# Altium schematic symbol library Schematic_Transistor.SchLib: 9 symbols
Pins are listed as number, name and electrical type; pins without a type are passive.

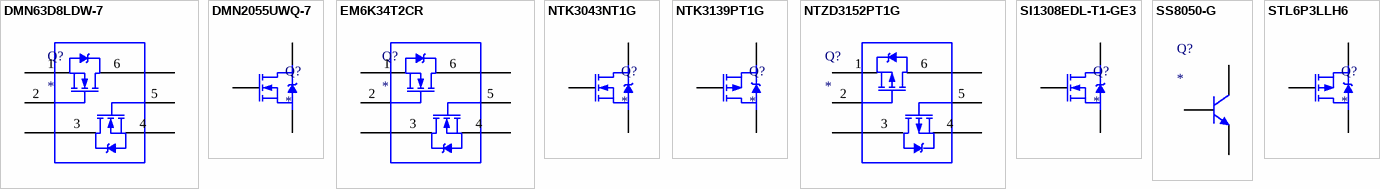
[diagram p0: symbols DMN63D8LDW-7 to STL6P3LLH6]

## DMN63D8LDW-7
designator Q?
DIODES INC. - DMN63D8LDW-7 - Dual MOSFET, N Channel, 30 V, 260 mA, 2.8 ohm, SOT-363, Surface Mount; Rise Time: 3.2ns; Rds On Max: 2.8R; Input Capacitance: 22pF; Drain to Source Voltage (Vdss): 30V; Continuous Drain Current (ID): 260mA; Max Power Dissipation: 300mW; Turn-On Delay Time: 3.3ns; Turn-Off Delay Time: 12ns; Fall Time: 6.3ns; Number of Elements: 2; Power Dissipation: 400mW; Threshold Voltage: 1.5V; Gate to Source Voltage (Vgs): 20V; FET Type: 2 N-Channel; Supplier 1: Digi-Key; Manufacturer: Diodes; Manufacturer Part Number: DMN63D8LDW-7; RoHS: Yes; Category: MOSFETs; Stock 1: 67979; Pricing 1: 1=0.30000, 10=0.24300, 25=0.20360, 100=0.09950, 250=0.09796, 500=0.08302, 1000=0.05768 (USD); Mount: Surface Mount; Case/Package: SOT-363; Number of Pins: 6; Weight: 0.000212oz; Contact Plating: Tin,Matte; Min Operating Temperature: -55°C; Max Operating Temperature: 150°C; Package Quantity: 3000; Packaging: Tape and Reel; Drain to Source Resistance: 2.8R; Element Configuration: Dual; Number of Channels: 2; Drain to Source Breakdown Voltage: 30V; Length: 2.2mm; Height: 1mm; Width: 1.35mm; Radiation Hardening: No; REACH SVHC: No SVHC; Lead Free: Lead Free; ComponentLink1URL: https://datasheet.ciiva.com/30023/dmn63d8ldw-30023824.pdf?src-supplier=Avnet; ComponentLink1Description: https://datasheet.ciiva.com/30023/dmn63d8ldw-30023824.pdf?src-supplier=Avnet; ComponentLink2URL: https://datasheet.ciiva.com/6384/dmn63d8ldw-6384534.pdf?src-supplier=Digi-Key; ComponentLink2Description: https://datasheet.ciiva.com/6384/dmn63d8ldw-6384534.pdf?src-supplier=Digi-Key
footprint SOT65P210X110-6N (SOT23, 6-Leads, Body 2.00x2.10mm, Pitch 0.65mm, IPC Medium Density)
pins: 1 S1, 2 G1, 3 D2, 4 S2, 5 G2, 6 D1

## DMN2055UWQ-7
designator Q?
Transistor MOSFET N-Channel 20V 3.1A Automotive 3-Pin SOT-323 T/R; Manufacturer: Diodes; Manufacturer Part Number: DMN2055UWQ-7; Supplier 1: Digikey; RoHS: Yes; Stock 1: 3935; Pricing 1: 1=0.37, 10=0.226, 100=0.1265, 500=0.1056, 1000=0.09376 (USD); RoHS Compliant: Yes
footprint SOT65P210X100-3N (SOT23, 3-Leads, Body 2.00x2.10mm, Pitch 0.65mm, IPC Medium Density)
pins: 1 G, 2 S, 3 D

## EM6K34T2CR
designator Q?
MOSFET 2N-CH 50V 0.2A EMT6; Manufacturer: Rohm; Manufacturer Part Number: EM6K34T2CR; FET Type: 2 N-Channel; Continuous Drain Current (ID): 200mA; Rds On Max: 2.2R; Input Capacitance: 26pF; Max Power Dissipation: 120mW; Supplier 1: Digi-Key; RoHS: Yes; Category: MOSFETs; Stock 1: 17851; Pricing 1: 1=0.35000, 10=0.26400, 25=0.23120, 100=0.12540, 250=0.12476, 500=0.10230, 1000=0.07590, 2500=0.06666 (USD); Mount: Surface Mount; Packaging: Tape and Reel; Drain to Source Voltage (Vdss): 50V; Lead Free: Lead Free; ComponentLink1URL: http://www.mouser.com/ds/2/348/em6k34-515126.pdf?src-supplier=Mouser; ComponentLink1Description: http://www.mouser.com/ds/2/348/em6k34-515126.pdf?src-supplier=Mouser; ComponentLink2URL: http://www.farnell.com/datasheets/2197909.pdf?src-supplier=Farnell; ComponentLink2Description: http://www.farnell.com/datasheets/2197909.pdf?src-supplier=Farnell; ComponentLink3URL: http://rohmfs.rohm.com/en/products/databook/datasheet/discrete/transistor/mosfet/em6k34.pdf?src-supplier=Digi-Key; ComponentLink3Description: http://rohmfs.rohm.com/en/products/databook/datasheet/discrete/transistor/mosfet/em6k34.pdf?src-supplier=Digi-Key; ComponentLink4URL: http://rohmfs.rohm.com/en/products/databook/datasheet/discrete/transistor/mosfet/em6k34.pdf?src-supplier=Avnet; ComponentLink4Description: http://rohmfs.rohm.com/en/products/databook/datasheet/discrete/transistor/mosfet/em6k34.pdf?src-supplier=Avnet; ComponentLink5URL: http://rohmfs.rohm.com/en/techdata_basic/transistor/taping/EMT6_T2R_taping.pdf?src-supplier=Digi-Key; ComponentLink5Description: http://rohmfs.rohm.com/en/techdata_basic/transistor/taping/EMT6_T2R_taping.pdf?src-supplier=Digi-Key; ComponentLink6URL: http://www.farnell.com/datasheets/2197909.pdf?src-supplier=Newark; ComponentLink6Description: http://www.farnell.com/datasheets/2197909.pdf?src-supplier=Newark
footprint SOTFL50P160X50-6N (SOTFL, 6-Leads, Body 1.60x1.60mm, Pitch 0.50mm, IPC Medium Density)
pins: 1 S1, 2 G1, 3 D2, 4 S2, 5 G2, 6 D1

## NTK3043NT1G
designator Q?
MOSFET N-CH 20V 0.225A SOT-723; Manufacturer: ON Semiconductor; Manufacturer Part Number: NTK3043NT1G; Gate to Source Voltage (Vgs): 10V; Rise Time: 15ns; Continuous Drain Current (ID): 210mA; Turn-Off Delay Time: 94ns; Turn-On Delay Time: 13ns; Element Configuration: Single; On-State Resistance: 3.4R; Input Capacitance: 11pF; Number of Elements: 1; Max Power Dissipation: 310mW; Power Dissipation: 440mW; Threshold Voltage: 400mV; Current Rating: 225mA; Supplier 1: Digi-Key; RoHS: Yes; Category: MOSFETs; Stock 1: 64770; Pricing 1: 1=0.34000, 10=0.27800, 25=0.23320, 100=0.11400, 250=0.11216, 500=0.09506, 1000=0.06605 (USD); Case/Package: SOT-723-3; Number of Pins: 3; Contact Plating: Tin,Matte; Min Operating Temperature: -55°C; Max Operating Temperature: 150°C; Fall Time: 15ns; Packaging: Tape and Reel; Package Quantity: 1; Rds On Max: 3.4R; Drain to Source Voltage (Vdss): 20V; Drain to Source Breakdown Voltage: 20V; Drain to Source Resistance: 3.4R; Voltage Rating (DC): 20V; Length: 1.25mm; Height: 0.55mm; Width: 0.85mm; Radiation Hardening: No; REACH SVHC: No SVHC; Lead Free: Lead Free; ComponentLink1URL: https://datasheet.ciiva.com/30479/0900766b81206050-30479911.pdf?src-supplier=RSComponents; ComponentLink1Description: https://datasheet.ciiva.com/30479/0900766b81206050-30479911.pdf?src-supplier=RSComponents; ComponentLink2URL: https://datasheet.ciiva.com/26145/ntk3043n-d-26145937.pdf?src-supplier=Avnet+Europe; ComponentLink2Description: https://datasheet.ciiva.com/26145/ntk3043n-d-26145937.pdf?src-supplier=Avnet+Europe; ComponentLink3URL: https://datasheet.ciiva.com/11168/ntk3043n-d-11168406.pdf?src-supplier=Avnet; ComponentLink3Description: https://datasheet.ciiva.com/11168/ntk3043n-d-11168406.pdf?src-supplier=Avnet; ComponentLink4URL: https://datasheet.ciiva.com/947/ntk3043n-d-947052.pdf?src-supplier=Digi-Key; ComponentLink4Description: https://datasheet.ciiva.com/947/ntk3043n-d-947052.pdf?src-supplier=Digi-Key; ComponentLink5URL: https://datasheet.ciiva.com/16289/ntk3043n-d-16289766.pdf?src-supplier=Future+Electronics; ComponentLink5Description: https://datasheet.ciiva.com/16289/ntk3043n-d-16289766.pdf?src-supplier=Future+Electronics; ComponentLink6URL: https://datasheet.ciiva.com/16486/ntk3043n-d-16486375.pdf?src-supplier=Avnet+Asia; ComponentLink6Description: https://datasheet.ciiva.com/16486/ntk3043n-d-16486375.pdf?src-supplier=Avnet+Asia; ComponentLink7URL: https://datasheet.ciiva.com/8059/ntk3043n-d-8059515.pdf?src-supplier=Element14; ComponentLink7Description: https://datasheet.ciiva.com/8059/ntk3043n-d-8059515.pdf?src-supplier=Element14; ComponentLink8URL: https://datasheet.ciiva.com/947/ntk3043n-d-947053.pdf?src-supplier=Digi-Key; ComponentLink8Description: https://datasheet.ciiva.com/947/ntk3043n-d-947053.pdf?src-supplier=Digi-Key; ComponentLink9URL: https://datasheet.ciiva.com/947/ntk3043n-d-947054.pdf?src-supplier=Digi-Key; ComponentLink9Description: https://datasheet.ciiva.com/947/ntk3043n-d-947054.pdf?src-supplier=Digi-Key
footprint SOTFL40P120X55-3N (SOTFL, 3-Leads, Body 1.20x1.20mm, Pitch 0.40mm, IPC Medium Density)
pins: 1 G, 2 S, 3 D

## NTK3139PT1G
designator Q?
MOSFET P-CH 20V 0.66A SOT-723; Manufacturer: ON Semiconductor; Manufacturer Part Number: NTK3139PT1G; Element Configuration: Single; Drain to Source Breakdown Voltage: -20V; Gate to Source Voltage (Vgs): 6V; Rds On Max: 480mR; Input Capacitance: 170pF; Number of Elements: 1; Max Power Dissipation: 550mW; Rise Time: 5.8ns; Continuous Drain Current (ID): 780mA; Power Dissipation: 310mW; Drain to Source Resistance: 380mR; Turn-Off Delay Time: 32.7ns; Turn-On Delay Time: 9ns; Threshold Voltage: -1.2V; Supplier 1: Digi-Key; RoHS: Yes; Category: MOSFETs; Stock 1: 25213; Pricing 1: 1=0.35000, 10=0.25900, 25=0.22680, 100=0.12310, 250=0.12248, 500=0.10044, 1000=0.07452 (USD); Case/Package: SOT-723-3; Number of Pins: 3; Contact Plating: Tin,Matte; Min Operating Temperature: -55°C; Max Operating Temperature: 150°C; Packaging: Tape and Reel; Dual Supply Voltage: -20V; Drain to Source Voltage (Vdss): 20V; Package Quantity: 1; Fall Time: 5.8ns; Termination: SMD/SMT; On-State Resistance: 380mR; Length: 1.25mm; Height: 0.55mm; Width: 0.85mm; Radiation Hardening: No; Lead Free: Lead Free; REACH SVHC: No SVHC; ComponentLink1URL: https://datasheet.ciiva.com/936/ntk3139p-d-936832.pdf?src-supplier=Digi-Key; ComponentLink1Description: https://datasheet.ciiva.com/936/ntk3139p-d-936832.pdf?src-supplier=Digi-Key; ComponentLink2URL: https://datasheet.ciiva.com/30480/0900766b81206052-30480051.pdf?src-supplier=RSComponents; ComponentLink2Description: https://datasheet.ciiva.com/30480/0900766b81206052-30480051.pdf?src-supplier=RSComponents; ComponentLink3URL: https://datasheet.ciiva.com/4440/ntk3139p-d-119606-4440219.pdf?src-supplier=Mouser; ComponentLink3Description: https://datasheet.ciiva.com/4440/ntk3139p-d-119606-4440219.pdf?src-supplier=Mouser; ComponentLink4URL: https://datasheet.ciiva.com/26145/ntk3139p-d-26145940.pdf?src-supplier=Avnet+Europe; ComponentLink4Description: https://datasheet.ciiva.com/26145/ntk3139p-d-26145940.pdf?src-supplier=Avnet+Europe; ComponentLink5URL: https://datasheet.ciiva.com/936/ntk3139p-d-936833.pdf?src-supplier=Digi-Key; ComponentLink5Description: https://datasheet.ciiva.com/936/ntk3139p-d-936833.pdf?src-supplier=Digi-Key; ComponentLink6URL: https://datasheet.ciiva.com/11166/ntk3139p-d-11166614.pdf?src-supplier=Avnet; ComponentLink6Description: https://datasheet.ciiva.com/11166/ntk3139p-d-11166614.pdf?src-supplier=Avnet; ComponentLink7URL: https://datasheet.ciiva.com/16500/ntk3139p-d-16500971.pdf?src-supplier=Future+Electronics; ComponentLink7Description: https://datasheet.ciiva.com/16500/ntk3139p-d-16500971.pdf?src-supplier=Future+Electronics; ComponentLink8URL: https://datasheet.ciiva.com/11168/ntk3139p-d-11168238.pdf?src-supplier=Avnet; ComponentLink8Description: https://datasheet.ciiva.com/11168/ntk3139p-d-11168238.pdf?src-supplier=Avnet
footprint SOTFL40P120X55-3N (SOTFL, 3-Leads, Body 1.20x1.20mm, Pitch 0.40mm, IPC Medium Density)
pins: 1 G, 2 S, 3 D

## NTZD3152PT1G
designator Q?
MOSFET 2P-CH 20V 0.43A SOT-563; Manufacturer: ON Semiconductor; Manufacturer Part Number: NTZD3152PT1G; On-State Resistance: 500mR; Element Configuration: Dual; Drain to Source Breakdown Voltage: -20V; Gate to Source Voltage (Vgs): 6V; Rise Time: 12ns; Rds On Max: 900mR; Input Capacitance: 175pF; Number of Elements: 2; Max Power Dissipation: 250mW; Continuous Drain Current (ID): 430mA; Drain to Source Resistance: 1R; Turn-Off Delay Time: 35ns; Turn-On Delay Time: 10ns; Current Rating: -430mA; Supplier 1: Digi-Key; RoHS: Yes; Category: MOSFETs; Stock 1: 20140; Pricing 1: 1=0.37000, 10=0.28000, 25=0.25240, 100=0.13310, 250=0.13172, 500=0.11796, 1000=0.09180 (USD); Case/Package: SOT-563; Number of Pins: 6; Min Operating Temperature: -55°C; Max Operating Temperature: 150°C; Package Quantity: 1; Drain to Source Voltage (Vdss): 20V; Fall Time: 12ns; Power Dissipation: 250mW; Packaging: Tape and Reel; Voltage Rating (DC): -20V; Length: 1.7mm; Height: 0.6mm; Width: 1.3mm; Radiation Hardening: No; Lead Free: Lead Free; ComponentLink1URL: https://datasheet.ciiva.com/4439/ntzd3152p-d-97468-4439894.pdf?src-supplier=Mouser; ComponentLink1Description: https://datasheet.ciiva.com/4439/ntzd3152p-d-97468-4439894.pdf?src-supplier=Mouser; ComponentLink2URL: https://datasheet.ciiva.com/929/ntzd3152p-d-929089.pdf?src-supplier=Digi-Key; ComponentLink2Description: https://datasheet.ciiva.com/929/ntzd3152p-d-929089.pdf?src-supplier=Digi-Key; ComponentLink3URL: https://datasheet.ciiva.com/30480/0900766b8120607e-30480063.pdf?src-supplier=RSComponents; ComponentLink3Description: https://datasheet.ciiva.com/30480/0900766b8120607e-30480063.pdf?src-supplier=RSComponents; ComponentLink4URL: https://datasheet.ciiva.com/8114/ntzd3152p-d-8114956.pdf?src-supplier=Avnet; ComponentLink4Description: https://datasheet.ciiva.com/8114/ntzd3152p-d-8114956.pdf?src-supplier=Avnet; ComponentLink5URL: https://datasheet.ciiva.com/929/ntzd3152p-d-929090.pdf?src-supplier=Digi-Key; ComponentLink5Description: https://datasheet.ciiva.com/929/ntzd3152p-d-929090.pdf?src-supplier=Digi-Key; ComponentLink6URL: https://datasheet.ciiva.com/929/ntzd3152p-d-929091.pdf?src-supplier=Digi-Key; ComponentLink6Description: https://datasheet.ciiva.com/929/ntzd3152p-d-929091.pdf?src-supplier=Digi-Key
footprint SOTFL50P160X60-6N (SOTFL, 6-Leads, Body 1.60x1.60mm, Pitch 0.50mm, IPC Medium Density)
pins: 1 S1, 2 G1, 3 D2, 4 S2, 5 G2, 6 D1

## SI1308EDL-T1-GE3
designator Q?
Single N-Channel 30 V 0.4 W 4.1 nC Silicon Surface Mount Mosfet - SOT-323; Manufacturer: Vishay Siliconix; Manufacturer Part Number: SI1308EDL-T1-GE3; Rise Time: 9ns; Input Capacitance: 105pF; Max Power Dissipation: 500mW; Drain to Source Voltage (Vdss): 30V; Continuous Drain Current (ID): 1.5A; Rds On Max: 132mR; Gate to Source Voltage (Vgs): 12V; Fall Time: 8ns; Threshold Voltage: 600mV; Turn-On Delay Time: 2ns; Number of Channels: 1; Supplier 1: Digikey; RoHS: Yes; Category: MOSFETs; Stock 1: 23581; Pricing 1: 1=0.45, 10=0.309, 100=0.1795, 500=0.17242, 1000=0.15429, 3000=0.10608, 6000=0.102, 9000=0.09486, 15000=0.09375 (USD); Mounting Technology: Surface Mount; Case/Package: SOT-323; Pins: 3; Weight: 0.004395oz; Min Operating Temperature: -55°C; Max Operating Temperature: 150°C; Packaging: Tape and Reel; Package Quantity: 3000; Drain to Source Resistance: 132mR; Turn-Off Delay Time: 8ns; Polarity: N-CHANNEL; Series: TrenchFET®; Drain-source On Resistance-Max: 132mR; Length: 2.2mm; Width: 1.35mm; Height: 1mm; Radiation Hardening: No; Reach SVHC Compliant: No; Lead Free: Lead Free; RoHS Compliant: Yes; ComponentLink1URL: https://datasheet.ciiva.com/16486/si1308edl-16486134.pdf?src-supplier=Future+Electronics; ComponentLink1Description: https://datasheet.ciiva.com/16486/si1308edl-16486134.pdf?src-supplier=Future+Electronics; ComponentLink2URL: https://datasheet.ciiva.com/30479/0900766b8126ce45-30479740.pdf?src-supplier=Rs; ComponentLink2Description: https://datasheet.ciiva.com/30479/0900766b8126ce45-30479740.pdf?src-supplier=Rs; ComponentLink3URL: https://datasheet.ciiva.com/24019/si1308edl-256534-24019968.pdf?src-supplier=Mouser; ComponentLink3Description: https://datasheet.ciiva.com/24019/si1308edl-256534-24019968.pdf?src-supplier=Mouser; ComponentLink4URL: https://datasheet.ciiva.com/7788/si1308edl-7788743.pdf?src-supplier=Element14; ComponentLink4Description: https://datasheet.ciiva.com/7788/si1308edl-7788743.pdf?src-supplier=Element14
footprint SOT65P210X110-3N (SOT23, 3-Leads, Body 2.00x2.10mm, Pitch 0.65mm, IPC Medium Density)
pins: 1 G, 2 S, 3 D

## SS8050-G
designator Q?
Trans Gp Bjt NPN 25V 1.5A 300MW 3-PIN SOT-23 T/r; Manufacturer: Comchip; Manufacturer Part Number: SS8050-G; Collector Emitter Voltage (VCEO): 400mV; Transition Frequency: 100MHz; Supplier 1: Digi-Key; RoHS: Yes; Stock 1: 120124; Pricing 1: 1=0.23000, 10=0.18500, 25=0.15440, 100=0.09790, 500=0.06440, 1000=0.04379 (USD); Mount: Surface Mount; Case/Package: TO-236-3; Packaging: Tape and Reel; Max Collector Current: 1.5A; Max Power Dissipation: 300mW; Collector Emitter Breakdown Voltage: 25V; Max Breakdown Voltage: 25V; ComponentLink1URL: http://www.comchiptech.com/admin/files/product/SS8050-G RevA181526.pdf?src-supplier=Digi-Key; ComponentLink1Description: http://www.comchiptech.com/admin/files/product/SS8050-G RevA181526.pdf?src-supplier=Digi-Key; ComponentLink2URL: http://www.comchiptech.com/cms/UserFiles/SS8050-G%20RevA181526.pdf?src-supplier=Digi-Key; ComponentLink2Description: http://www.comchiptech.com/cms/UserFiles/SS8050-G%20RevA181526.pdf?src-supplier=Digi-Key
footprint SOT95P240X105-3N (SOT23, 3-Leads, Body 2.90x2.40mm, Pitch 0.95mm, IPC Medium Density)
pins: 1 B, 2 E, 3 C

## STL6P3LLH6
designator Q?
MOSFET P-CH POWER MOSFET; Manufacturer: STMicroelectronics; Manufacturer Part Number: STL6P3LLH6; Drain to Source Voltage (Vdss): 30V; Continuous Drain Current (ID): 6A; Rds On Max: 30mR; Input Capacitance: 1.45nF; Max Power Dissipation: 2.9W; Supplier 1: Digi-Key; RoHS: Yes; Category: MOSFETs; Stock 1: 129; Pricing 1: 1=1.45000, 10=1.29800, 25=1.23200, 100=0.92400, 250=0.91520, 500=0.78320, 1000=0.63800 (USD); Mount: Surface Mount; Number of Pins: 8; Packaging: Tape and Reel; Lead Free: Lead Free; ComponentLink1URL: http://www.mouser.com/ds/2/389/stl6p3llh6-956152.pdf?src-supplier=Mouser; ComponentLink1Description: http://www.mouser.com/ds/2/389/stl6p3llh6-956152.pdf?src-supplier=Mouser; ComponentLink2URL: http://www.st.com/content/ccc/resource/technical/document/datasheet/3c/90/16/29/a8/76/48/02/DM00064617.pdf/files/DM00064617.pdf/jcr:content/translations/en.DM00064617.pdf?src-supplier=Digi-Key; ComponentLink2Description: http://www.st.com/content/ccc/resource/technical/document/datasheet/3c/90/16/29/a8/76/48/02/DM00064617.pdf/files/DM00064617.pdf/jcr:content/translations/en.DM00064617.pdf?src-supplier=Digi-Key; ComponentLink3URL: http://www.st.com/st-web-ui/static/active/en/resource/technical/document/datasheet/DM00064617.pdf?src-supplier=Avnet; ComponentLink3Description: http://www.st.com/st-web-ui/static/active/en/resource/technical/document/datasheet/DM00064617.pdf?src-supplier=Avnet
footprint QFN0P315X300X90-10N (QFN, 10-Leads, Body 3.15x3.00mm, Pitch 0.65mm/0.00mm, IPC Medium Density)
pins: 1 S, 2 S, 3 S, 4 G, 5 D, 6 D, 7 D, 8 D